# Altium schematic symbol library 85_SMA-50-0-144_111_YH.SchLib: 1 symbol
Pins are listed as number, name and electrical type; pins without a type are passive.

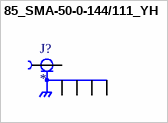
[diagram p0: symbol 85_SMA-50-0-144/111_YH]

## 85_SMA-50-0-144/111_YH
designator J?
RF Connector, SMA Right angle PCB jack(f) | HUBER+SUHNER 85_SMA-50-0-144/111_YH; SnapEDA_Link: https://www.snapeda.com/parts/85_SMA-50-0-144/111_YH/Huber%252BSuhner/view-part/?ref=snap; Package: None; Value: *; MF: HUBER+SUHNER; MP: 85_SMA-50-0-144/111_YH; Check_prices: https://www.snapeda.com/parts/85_SMA-50-0-144/111_YH/Huber%252BSuhner/view-part/?ref=eda
footprint HUBER+SUHNER_85_SMA-50-0-144/111_YH
pins: 1, G1 (power), G2 (power), G3 (power), G4 (power)